# Altium integrated library Display.IntLib: 1 symbol
Pins are listed as number, name and electrical type; pins without a type are passive.

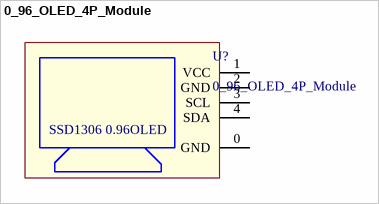
[diagram p0: symbol 0_96_OLED_4P_Module]

## 0_96_OLED_4P_Module
designator U?
0.96 OLED module
footprint OLED_0_96_4PIN
pins: 0 GND, 1 VCC, 2 GND, 3 SCL, 4 SDA
text: SSD1306 0.96OLED